# EAGLE library part PIC16F1829 (library chlk_bot)
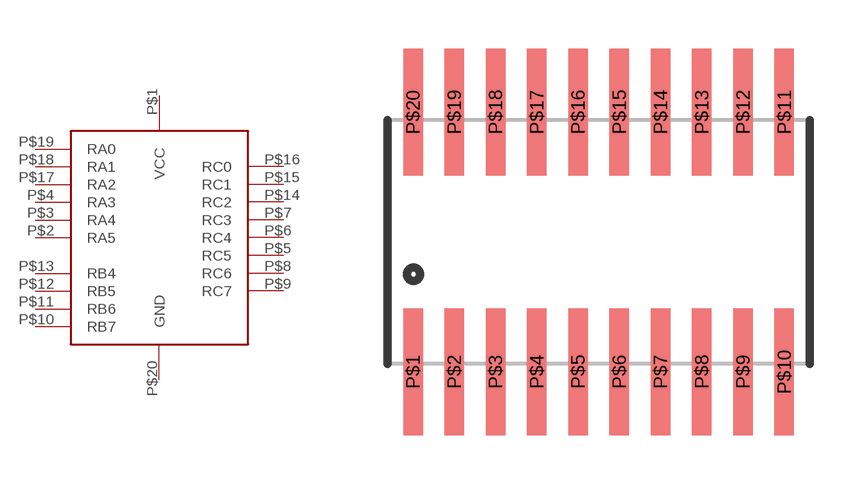
[diagram p3: symbol with the pads of SO20W; footprint SO20W]

Designator prefix -

## PIC16F1829  [SO20W]
P$1  VCC
P$2  RA5
P$3  RA4
P$4  RA3
P$5  RC5
P$6  RC4
P$7  RC3
P$8  RC6
P$9  RC7
P$10  RB7
P$11  RB6
P$12  RB5
P$13  RB4
P$14  RC2
P$15  RC1
P$16  RC0
P$17  RA2
P$18  RA1
P$19  RA0
P$20  GND

## Footprint SO20W (pad centres in mm)
20 pin soic package that should fit both wide and narrow, UNPROOVEN
smd 0.6 x 3.9: P$1 -5.715,-4; P$2 -4.445,-4; P$3 -3.175,-4; P$4 -1.905,-4; P$5 -0.635,-4; P$6 0.635,-4; P$7 1.905,-4; P$8 3.175,-4; P$9 4.445,-4; P$10 5.715,-4; P$11 5.715,4; P$12 4.445,4; P$13 3.175,4; P$14 1.905,4; P$15 0.635,4; P$16 -0.635,4; P$17 -1.905,4; P$18 -3.175,4; P$19 -4.445,4; P$20 -5.715,4